# EAGLE library part NXP_FXAS21002CQR1 (library NXP - FXAS21002CQR1)
Gyroscope Triple 3.6V 24-Pin QFN T/R
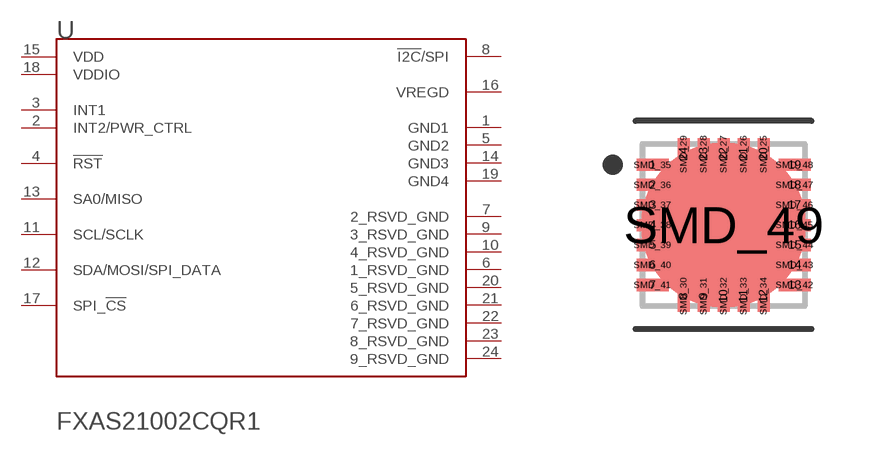
[diagram p0: symbol with the pads of NXP_FXAS21002CQR1_0; footprint NXP_FXAS21002CQR1_0]

Designator prefix U

## NXP_FXAS21002CQR1NXP_FXAS21002CQR1_0_0 (CENTROID_NOT_SPECIFIED: No; DATASHEET: https://www.nxp.com/docs/en/data-sheet/FXAS21002.pdf; DEVICE_CLASS_L1: Sensors; DEVICE_CLASS_L2: Motion Sensors; DEVICE_CLASS_L3: Gyroscopes; DIGIKEY_DESCRIPTION: IC GYROSCOPE 3-AXIS 24QFN; DIGIKEY_PART_NUMBER: FXAS21002CQR1CT-ND; FOOTPRINT_URL: https://www.nxp.com/docs/en/package-information/98ASA00356D.pdf; HEIGHT: 1.1mm; LEAD_FREE: yes; MAX_SUPPLY_VOLTAGE: 3.6V; MF: NXP; MFG_PACKAGE_IDENT: SOT1681-1; MFG_PACKAGE_IDENT_DATE: 01/2016; MFG_PACKAGE_IDENT_REV: A; MIN_SUPPLY_VOLTAGE: 1.95V; MOUSER_DESCRIPTION: Gyroscopes Triple Axis }2000?/s 24-Pin QFN Tape and Reel; MOUSER_PART_NUMBER: 841-FXAS21002CQR1; MPN: FXAS21002CQR1; OPERATING_SUPPLY_CURRENT: 2.7mA; PACKAGE: VQFN24; PREFIX: U; ROHS: yes; SENSOR_OUTPUT: I2C,SPI; TEMPERATURE_RANGE_HIGH: +85°C; TEMPERATURE_RANGE_LOW: -40°C; VERIFICATION_VERSION: 0.0.0.1)  [NXP_FXAS21002CQR1_0]
1  GND1  pwr
2  INT2/PWR_CTRL
3  INT1  out
4  !RST!  out
5  GND2  pwr
6  1_RSVD_GND  pwr
7  2_RSVD_GND  pwr
8  !I2C!/SPI
9  3_RSVD_GND  pwr
10  4_RSVD_GND  pwr
11  SCL/SCLK
12  SDA/MOSI/SPI_DATA
13  SA0/MISO
14  GND3  pwr
15  VDD  pwr
16  VREGD  out
17  SPI_!CS!
18  VDDIO  pwr
19  GND4  pwr
20  5_RSVD_GND  pwr
21  6_RSVD_GND  pwr
22  7_RSVD_GND  pwr
23  8_RSVD_GND  pwr
24  9_RSVD_GND  pwr

## Footprint NXP_FXAS21002CQR1_0 (pad centres in mm)
Gyroscope Triple 3.6V 24-Pin QFN T/R
smd 0.8 x 0.3: 1 -1.775,1.5; 2 -1.775,1; 3 -1.775,0.5; 4 -1.775,0; 5 -1.775,-0.5; 6 -1.775,-1; 7 -1.775,-1.5; 13 1.775,-1.5; 14 1.775,-1; 15 1.775,-0.5; 16 1.775,0; 17 1.775,0.5; 18 1.775,1; 19 1.775,1.5
smd 0.3 x 0.8: 8 -1,-1.775; 9 -0.5,-1.775; 10 0,-1.775; 11 0.5,-1.775; 12 1,-1.775; 20 1,1.775; 21 0.5,1.775; 22 0,1.775; 23 -0.5,1.775; 24 -1,1.775
smd 0.269 x 0.769: SMD_25 1,1.775; SMD_26 0.5,1.775; SMD_27 0,1.775; SMD_28 -0.5,1.775; SMD_29 -1,1.775; SMD_30 -1,-1.775; SMD_31 -0.5,-1.775; SMD_32 0,-1.775; SMD_33 0.5,-1.775; SMD_34 1,-1.775
smd 0.769 x 0.269: SMD_35 -1.775,1.5; SMD_36 -1.775,1; SMD_37 -1.775,0.5; SMD_38 -1.775,0; SMD_39 -1.775,-0.5; SMD_40 -1.775,-1; SMD_41 -1.775,-1.5; SMD_42 1.775,-1.5; SMD_43 1.775,-1; SMD_44 1.775,-0.5; SMD_45 1.775,0; SMD_46 1.775,0.5; SMD_47 1.775,1; SMD_48 1.775,1.5
smd 4.118 x 4.118: SMD_49 0,0